# Altium footprint library BNO08.PcbLib: 1 footprints
Each footprint in its own frame and in the unit in brackets; x right, y up, seen from the top. Pads: shape width x height; smd on the part's side, far side on the other; paste and mask are expansions set on the pad; w line width, h text height; cw(c..) or ccw(c..) is an arc to the next point about the centre after c.
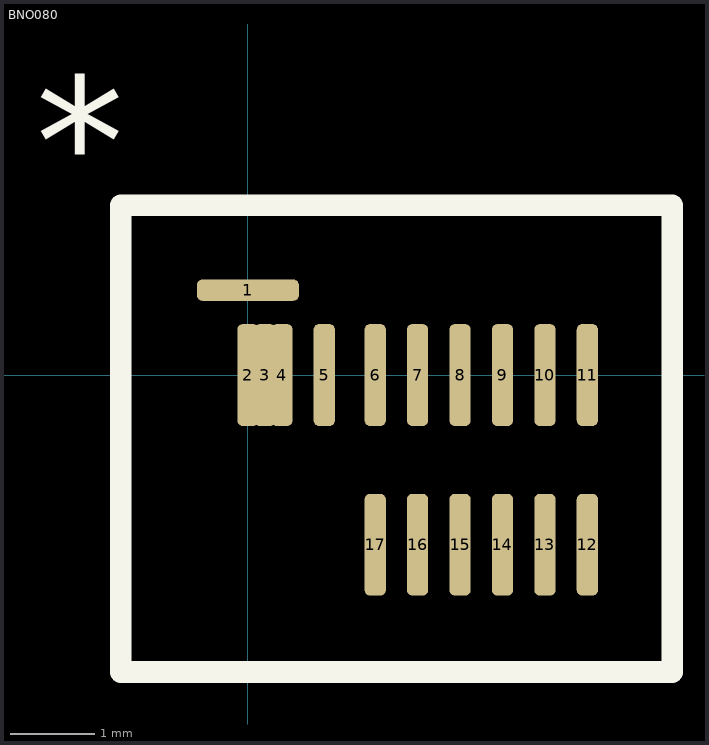
[diagram p0: the footprint, top view; thin cyan lines are the x and y axes]

## BNO080 [mm]
pads (17):
  rrect50% 1.2x0.25 smd: 1(0,1)
  rrect50% 0.25x1.2 smd: 2(0,0) 3(0.2,0) 4(0.4,0) 5(0.9,0) 6(1.5,0) 7(2,0) 8(2.5,0) 9(3,0) 10(3.5,0) 11(4,0) 12(4,-2) 13(3.5,-2) 14(3,-2) 15(2.5,-2) 16(2,-2) 17(1.5,-2)
Top Overlay:
  lines w0.254: -1.5,-3.5 -1.5,2 5,2 5,-3.5 -1.5,-3.5
  text "*" at -2.5,2 h1.52